# EAGLE library part 61400826021 (library Wuerth_Elektronik_eiCan_Communication_Connectors_v2.2)
WR-COM Horizontal Dual Stacked USB Type A
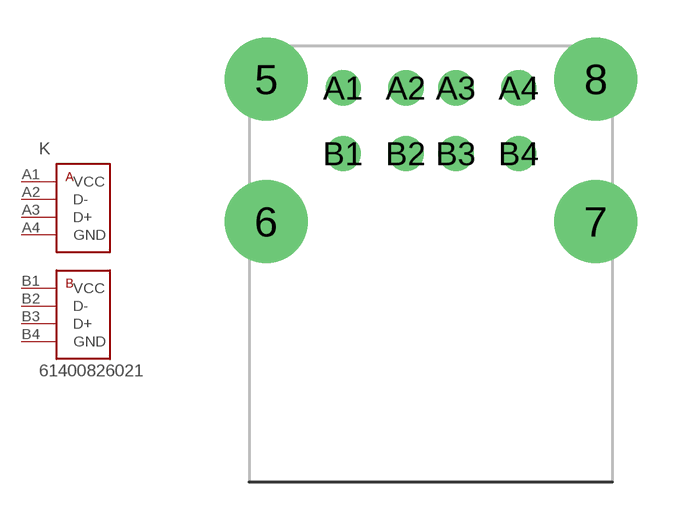
[diagram p3: symbol with the pads of 61400826021; footprint 61400826021]

Designator prefix K

## 61400826021  [61400826021]
A1  VCC
A2  D-
A3  D+
A4  GND
B1  VCC
B2  D-
B3  D+
B4  GND

## Footprint 61400826021 (pad centres in mm)
WR-COM Horizontal Dual Stacked USB Type A
drill 2.3: 5 -6.57,5.68; 6 -6.57,0; 7 6.57,0; 8 6.57,5.68
drill 0.9: A1 -3.5,5.33; A2 -1,5.33; A3 1,5.33; A4 3.5,5.33; B1 -3.5,2.71; B2 -1,2.71; B3 1,2.71; B4 3.5,2.71